# EAGLE library part AD5331BRUZ_FUNC (library AD5331BRUZ)
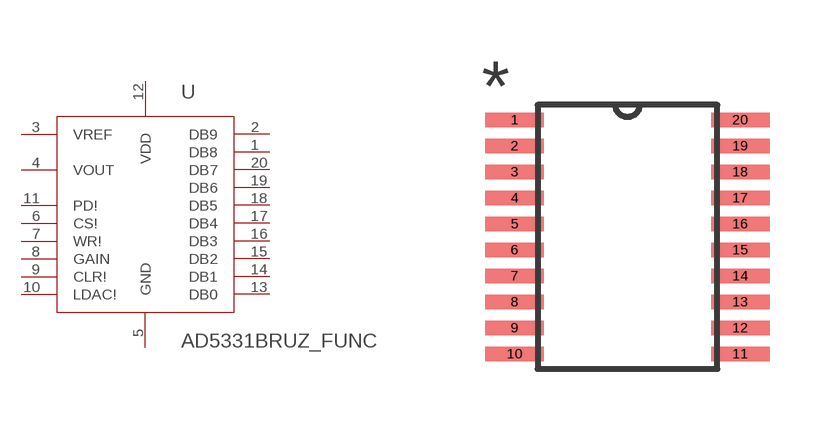
[diagram p0: symbol with the pads of AD5331BRUZ; footprint AD5331BRUZ]

Designator prefix U

## AD5331BRUZ_FUNCAD5331BRUZ (COPYRIGHT: Copyright (C) 2024 Ultra Librarian. All rights reserved.; MANUFACTURER_PART_NUMBER: AD5331BRUZ; MFR_NAME: Analog Devices Inc)  [AD5331BRUZ]
1  DB8  pas
2  DB9  pas
3  VREF  pas
4  VOUT  pas
5  GND  pas
6  CS!  pas
7  WR!  pas
8  GAIN  pas
9  CLR!  pas
10  LDAC!  pas
11  PD!  pas
12  VDD  pwr
13  DB0  pas
14  DB1  pas
15  DB2  pas
16  DB3  pas
17  DB4  pas
18  DB5  pas
19  DB6  pas
20  DB7  pas

## Footprint AD5331BRUZ (pad centres in mm)
smd 1.462 x 0.355: 1 -2.819,2.925; 2 -2.819,2.275; 3 -2.819,1.625; 4 -2.819,0.975; 5 -2.819,0.325; 6 -2.819,-0.325; 7 -2.819,-0.975; 8 -2.819,-1.625; 9 -2.819,-2.275; 10 -2.819,-2.925; 11 2.819,-2.925; 12 2.819,-2.275; 13 2.819,-1.625; 14 2.819,-0.975; 15 2.819,-0.325; 16 2.819,0.325; 17 2.819,0.975; 18 2.819,1.625; 19 2.819,2.275; 20 2.819,2.925